# Altium schematic symbol library yc.SchLib: 2 symbols
Pins are listed as number, name and electrical type; pins without a type are passive.

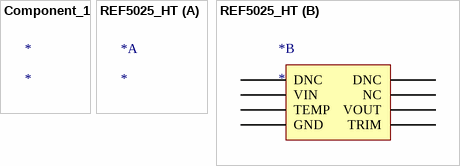
[diagram p0: symbols Component_1 to REF5025_HT]

## Component_1
designator *

## REF5025_HT
designator *
part B pins: ? DNC, ? VIN, ? TEMP, ? GND, ? DNC, ? NC, ? VOUT, ? TRIM